# Altium schematic symbol library VKA.SchLib: 43 symbols
Pins are listed as number, name and electrical type; pins without a type are passive.

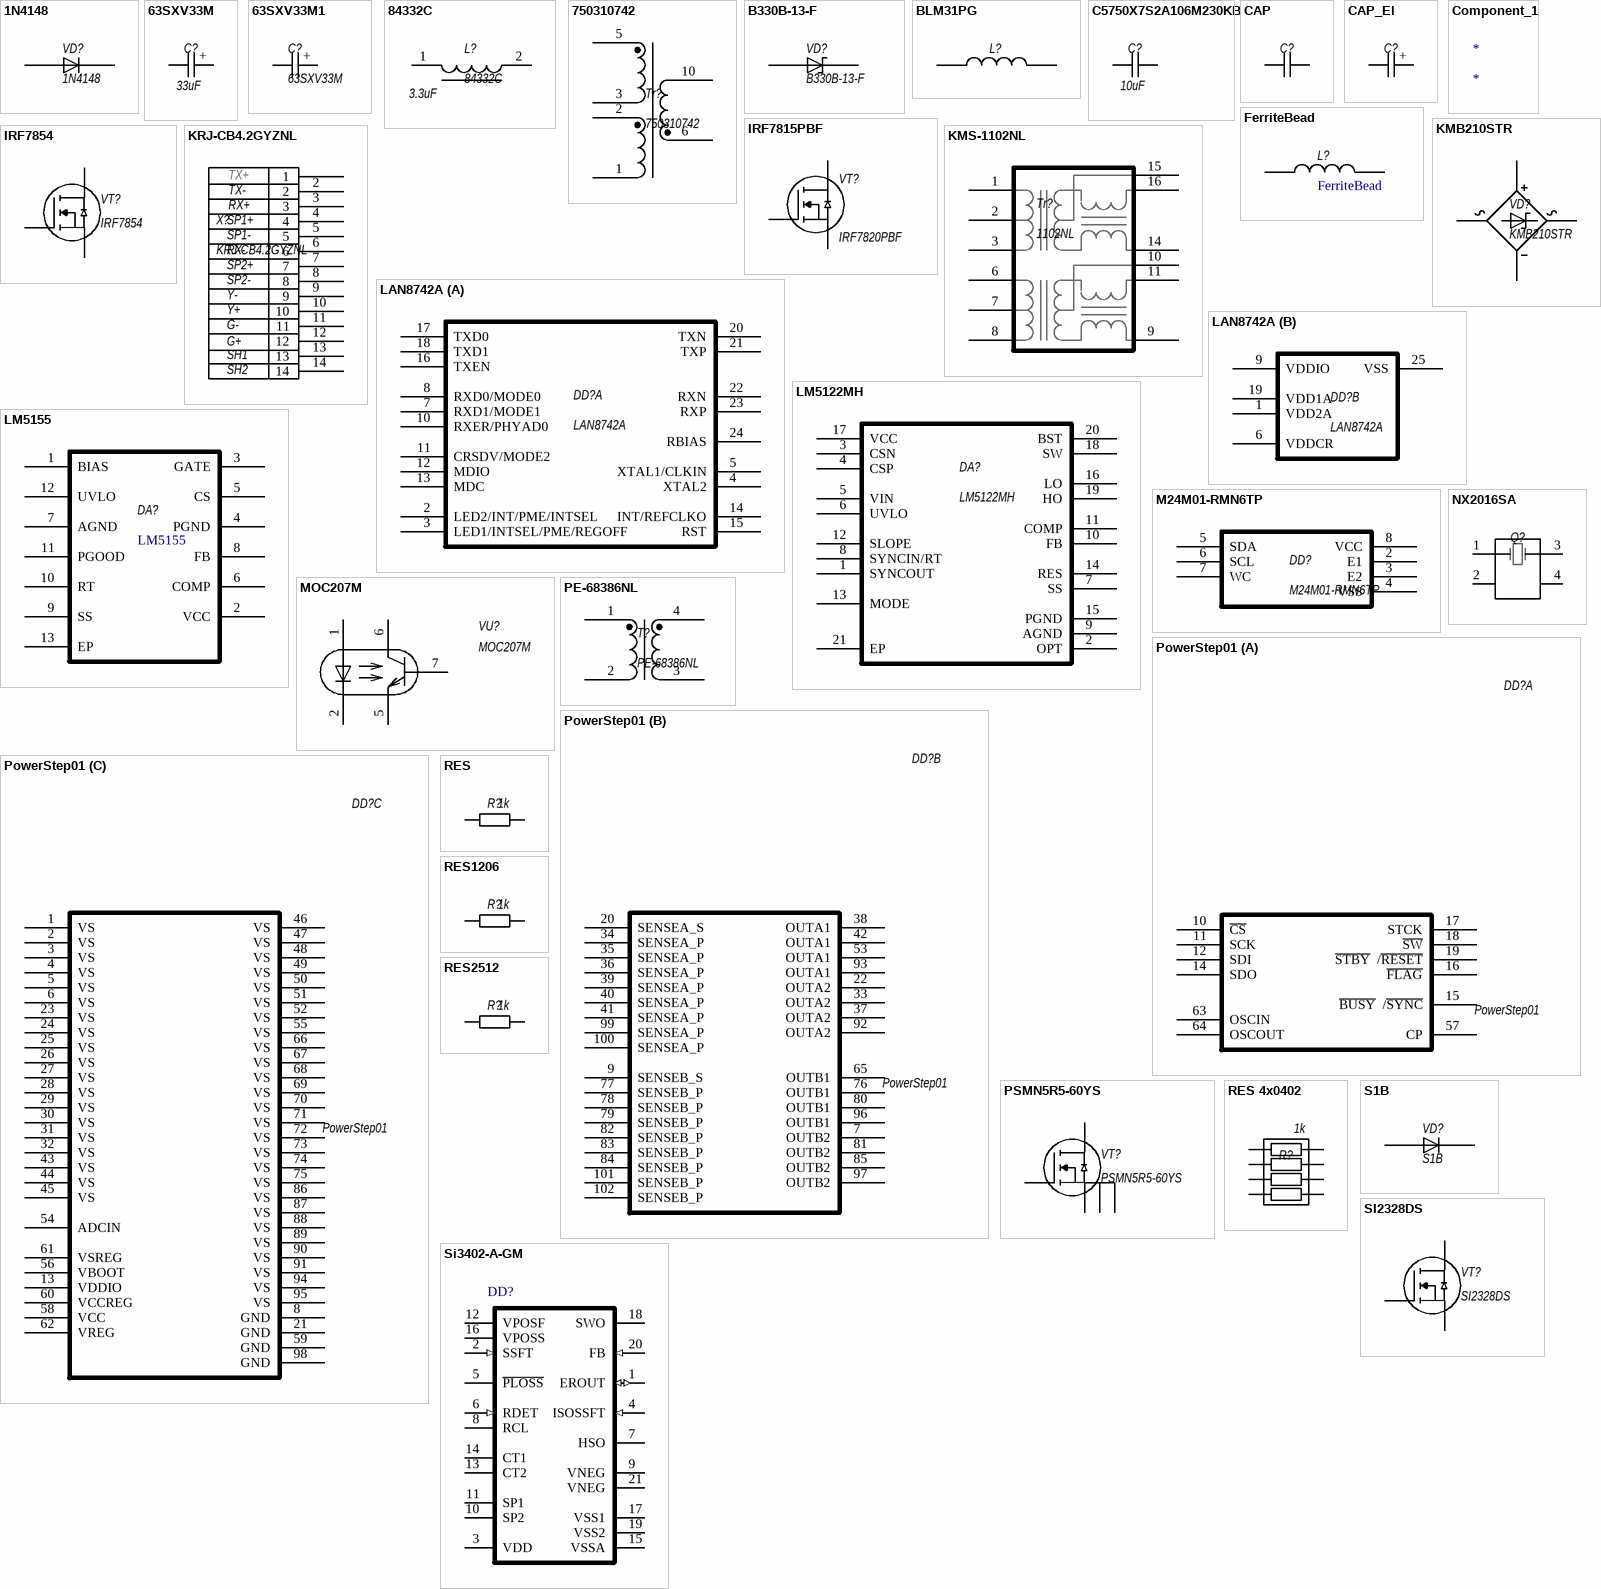
[diagram p0: symbols 1N4148 to Si3402-A-GM]

## 1N4148
designator VD?
rectifier diode; Manufacturer: ON
pins: 1 A, 2 K

## 63SXV33M
designator C?  value 33uF  (hidden comment: 63SXV33M)
Polymer Electrolytic Capacitor; Manufacturer: Panasonic; Voltage: 63V; Type: Aluminum_polymer
pins: 1, 2
text: +

## 63SXV33M1
designator C?, comment 63SXV33M
Polymer Electrolytic; Manufacturer: Panasonic; voltage: 63V; value: 33uF
pins: 1, 2
text: +

## 84332C
designator L?  value 3.3uF
Power inductor; Manufacturer: Murata
pins: 1, 2

## 750310742
designator Tr?
POE transformer; Manufacturer: Wurth
pins: 1, 2, 3, 5, 6, 10

## B330B-13-F
designator VD?
DIODE, SCHOTTKY, 3A, 30V, DO-214AA-2; Manufacturer: Multicomp
pins: 1 A, 2 K

## BLM31PG
designator L?, comment FB  (value not drawn)
Chip Ferrite Bead 1206; Manufacturer: Murata; type: BLM31PG601SN; value: 600
footprint L1206_Murata
pins: 1, 2

## C5750X7S2A106M230KB
designator C?  value 10uF
SMD Capacitor 2220 10u 100V; Manufacturer: TDK; Material: X7R; Tolerance: 10%; Type: Ceramic Capacitor; Voltage: 100V
pins: 1, 2

## CAP
designator C?  (value not drawn)
SMD Capacitor; Manufacturer: Murata; Material: X7R; Tolerance: 10%; Voltage: 50V; Type: Ceramic Capacitor; Value: 5600pF
footprint C0402 (Chip Capacitor, Body 1.0x0.5mm, IPC High Density)
footprint C0603 (Chip Capacitor, Body 1.6x0.8mm, IPC High Density)
footprint C0805 (Chip Capacitor, Body 2.0x1.3mm, IPC High Density)
footprint C1206
pins: 1, 2

## CAP_El
designator C?
Aluminum Electrolytic Capacitor; Manufacturer: Murata; Voltage: 100V; Value: 47uF; Type: Aluminum
pins: 1, 2
text: +

## Component_1
designator *

## FerriteBead
designator L?
SMD Chip ferrite bead 0603; value: 600R; PartNumber: *; Manufacturer: *
footprint L0603 (Chip Capacitor, Body 1.6x0.8mm, IPC High Density)
pins: 1, 2

## IRF7815PBF
designator VT?, comment IRF7820PBF
MOSFET N-ch 200V 3.7A
footprint 8-Pin SOIC trans
pins: D, G, S

## IRF7854
designator VT?
MOSFET N-ch 80V 10A; Manufacturer: IR
pins: D, G, S

## KMB210STR
designator VD?
Shottky diode bridge 100V 2A
pins: 1 DC+, 2 DC-, 3 AC, 4 AC

## KMS-1102NL
designator Tr?, comment 1102NL
'Discrete Magnetic Transformer Module, 16 pins, SMT, 100 Base-TX
pins: 1, 2, 3, 6, 7, 8, 9, 10, 11, 14, 15, 16

## KRJ-CB4.2GYZNL
designator X?
RJ45 Single port Low profile Shielded LED
pins: 1, 2, 3, 4, 5, 6, 7, 8, 9, 10, 11, 12, 13, 14
text: TX+; TX-; RX+; SP1+; SP1-; RX-; SP2+; SP2-; Y-; Y+; G-; G+; SH1; SH2

## LAN8742A
designator DD?
RMII 10/100 Ethernet PHY
footprint QFN-MJ24 (QFN, 24-Leads, Body 4x4mm, Pitch 0.5mm, Thermal Pad 2.6x2.6mm, Microchip Recommended)
part A pins: 2 LED2/INT/PME/INTSEL, 3 LED1/INTSEL/PME/REGOFF, 4 XTAL2, 5 XTAL1/CLKIN, 7 RXD1/MODE1, 8 RXD0/MODE0, 10 RXER/PHYAD0, 11 CRSDV/MODE2, 12 MDIO, 13 MDC, 14 INT/REFCLKO, 15 RST, 16 TXEN, 17 TXD0, 18 TXD1, 20 TXN, 21 TXP, 22 RXN, 23 RXP, 24 RBIAS
part B pins: 1 VDD2A, 6 VDDCR, 9 VDDIO, 19 VDD1A, 25 VSS

## LM5122MH
designator DA?
Boost controller; Manufacturer: TI; Case: 20 pin HTSSOP
pins: 1 SYNCOUT, 2 OPT, 3 CSN, 4 CSP, 5 VIN, 6 UVLO, 7 SS, 8 SYNCIN/RT, 9 AGND, 10 FB, 11 COMP, 12 SLOPE, 13 MODE, 14 RES, 15 PGND, 16 LO, 17 VCC, 18 SW, 19 HO, 20 BST, 21 EP

## LM5155
designator DA?
Boost controller; Manufacturer: TI
pins: 1 BIAS, 2 VCC, 3 GATE, 4 PGND, 5 CS, 6 COMP, 7 AGND, 8 FB, 9 SS, 10 RT, 11 PGOOD, 12 UVLO, 13 EP

## M24M01-RMN6TP
designator DD?
EEPROM 1Mbit I2C-compatinle; Manufacturer: ST
pins: 2 E1, 3 E2, 4 VSS, 5 SDA, 6 SCL, 7 WC, 8 VCC

## MOC207M
designator VU?
Optocoupler Phototransistor output; Manufacturer: ON
footprint SOIC_8
pins: 1, 2, 5, 6, 7

## NX2016SA
designator Q?  (value not drawn)
Crystal oscillator 25MHz; Manufacturer: NDK; value: 25MHz
footprint CRY_NX2016SA_4P
pins: 1 OSC1, 2 OSC1, 3 OSC2, 4 OSC1

## PE-68386NL
designator T?
Gate drive transformer; Manufacturer: Pulse Electronics
pins: 1, 2, 3, 4

## PowerStep01
designator DD?
Integrating microstepping controller and MOSFET
footprint VFQFPN(11x 14x1.0)
part A pins: 10 ~{CS}, 11 SCK, 12 SDI, 14 SDO, 15 ~{BUSY}  /~{SYNC}, 16 ~{FLAG}, 17 STCK, 18 ~{SW}, 19 ~{STBY}  /~{RESET}, 57 CP, 63 OSCIN, 64 OSCOUT
part B pins: 7 OUTB2, 9 SENSEB_S, 20 SENSEA_S, 22 OUTA2, 33 OUTA2, 34 SENSEA_P, 35 SENSEA_P, 36 SENSEA_P, 37 OUTA2, 38 OUTA1, 39 SENSEA_P, 40 SENSEA_P, 41 SENSEA_P, 42 OUTA1, 53 OUTA1, 65 OUTB1, 76 OUTB1, 77 SENSEB_P, 78 SENSEB_P, 79 SENSEB_P, 80 OUTB1, 81 OUTB2, 82 SENSEB_P, 83 SENSEB_P, 84 SENSEB_P, 85 OUTB2, 92 OUTA2, 93 OUTA1, 96 OUTB1, 97 OUTB2, 99 SENSEA_P, 100 SENSEA_P, 101 SENSEB_P, 102 SENSEB_P
part C pins: 1 VS, 2 VS, 3 VS, 4 VS, 5 VS, 6 VS, 8 GND, 13 VDDIO, 21 GND, 23 VS, 24 VS, 25 VS, 26 VS, 27 VS, 28 VS, 29 VS, 30 VS, 31 VS, 32 VS, 43 VS, 44 VS, 45 VS, 46 VS, 47 VS, 48 VS, 49 VS, 50 VS, 51 VS, 52 VS, 54 ADCIN, 55 VS, 56 VBOOT, 58 VCC, 59 GND, 60 VCCREG, 61 VSREG, 62 VREG, 66 VS, 67 VS, 68 VS, 69 VS, 70 VS, 71 VS, 72 VS, 73 VS, 74 VS, 75 VS, 86 VS, 87 VS, 88 VS, 89 VS, 90 VS, 91 VS, 94 VS, 95 VS, 98 GND

## PSMN5R5-60YS
designator VT?
MOSFET N-ch 100V 60A; Manufacturer: NXP
pins: 1 S, 2 S, 3 S, 4 G, 5 D

## RES
designator R?  value 1k  (hidden comment: *)
SMD Resistor; Name: Chip SMD Resistor; Power: 0.062 Wt; Tolerance: 5%; Temperature Range: -55…155°C
footprint R0402
footprint R0603
footprint R0805
pins: 1, 2

## RES1206
designator R?, comment value 1k  (hidden comment: 1206)
SMD Resistor; Name: Chip SMD Resistor; Power: 0.5 Wt; Tolerance: 5%; Temperature Range: -55…155°C
footprint R1206
pins: 1, 2

## RES2512
designator R?, comment value 1k  (hidden comment: 2512)
SMD Resistor; Name: Chip SMD Resistor; Power: 1 W; Tolerance: 5%; Temperature Range: -55…155°C
pins: 1, 2

## RES 4x0402
designator R?  value 1k  (hidden comment: *)
Chip Resistor Array; Manufacturer: Panasonic; Name: EXBN8V; Number of Resistors: 4; Tolerance: 5%; Type: 0402 Array Concave Terminal; Number of Terminals: 8; Series: EXB
footprint EXN8V (Resistor Array 4x0402 0804)
pins: 1, 2, 3, 4, 5, 6, 7, 8

## S1B
designator VD?
Rectifier diode; Manufacturer: ON
pins: 1 A, 2 K

## SI2328DS
designator VT?
MOSFET N-ch 100V 1.5A; Manufacturer: Vishay
footprint SOT23_tr
pins: D, G, S

## Si3402-A-GM
designator DD?
Fully-Integrated 802.3-Compliant PoE PD Interface and Low-EMI Switching Regulator, 17 W Maximum Output Power, -40 to 85 degC, 20-pin QFN; Manufacturer: Silicon Labs; PartNumber: Si3402-A-GM; Maximum Output Power: 17 W; Sub-Family: Power Over Ethernet Controllers; DatasheetVersion: Rev. 1.3; PackageReference: QFN-20; PackageDescription: 20-Pin Quad-Flat No-Leads Package, Body 5 x 5 mm, Pitch 0.8 mm; Supplier 1: Digi-Key; Supplier Part Number 1: SI3402-A-GM-ND; Supplier 2: Mouser; Supplier Part Number 2: 634-SI3402-A-GM; Mounting Technology: Surface Mount; Code_JEDEC: MO-220; ComponentLink1Description: Manufacturer URL; ComponentLink1URL: http://www.silabs.com/; ComponentLink2Description: Datasheet; ComponentLink2URL: http://www.silabs.com/Support Documents/TechnicalDocs/Si3402.pdf; ComponentLink3Description: Package Specification; ComponentLink3URL: http://www.silabs.com/Support%20Documents/TechnicalDocs/Si3402.pdf
footprint SLAB-QFN-20-2700x2700TP_B_M (QFN, 20-Leads, Body 5x5mm, Pitch 0.8mm, Thermal Pad 2.7x2.7mm, IPC Low Density)
pins: 1 EROUT (io) "Error-amplifier output and PWM input; directly connected to opto-coupler in isolated application", 2 SSFT (in) "Soft-start output pin ramps voltage across external soft-start capacitor to allow switcher to ramp output slowly.", 3 VDD (power) "5 V supply rail for switcher; provides drive for opto-coupler", 4 ISOSSFT (in) "Isolated mode soft start enable input. Tie to VDD for non-isolated applications. Connect a 0.1 uF capacitor between this pin and VSSA for isolated applications.", 5 ~{PLOSS} (oc) "Early power loss indicator; open drain output is pulled to VPOS when VPORT is applied.", 6 RDET (in) "Input pin for external precision detection resistor; also used for establishing absolute current reference.", 7 HSO (hiz) "Hotswap switch output; connects to VNEG through hotswap switch.", 8 RCL "Input pin for external precision classification resistor; float if optional RCLASS is unused.", 9 VNEG (power) "Rectified high-voltage supply, negative rail. Must be connected to thermal PAD node (VNEG) on package bottom. This thermal pad must be connected to VNEG (pin #9) as well as a 2 in2 heat spreader plane using a minimum of nine (See Datasheet)", 10 SP2 (power) "High-voltage supply input from spare pair; polarity-insensitive.", 11 SP1 (power) "High-voltage supply input from spare pair; polarity-insensitive.", 12 VPOSF (power) "Rectified high-voltage supply, positive rail (force node)", 13 CT2 (power) "High-voltage supply input from center tap of Ethernet transformer; polarity-insensitive.", 14 CT1 (power) "High-voltage supply input from center tap of Ethernet transformer; polarity-insensitive.", 15 VSSA (power) "Analog ground.", 16 VPOSS (power) "Rectified high-voltage supply, positive rail sense node.", 17 VSS1 (power) "Negative supply rail for switcher; externally tied to HSO.", 18 SWO (oc) "Switching transistor output; drain of switching N-FET.", 19 VSS2 (power) "Negative supply rail for switcher; externally tied to HSO.", 20 FB (in) "Regulated feedback input in non-isolated application.", 21 VNEG (power) "Rectified high-voltage supply, negative rail. Must be connected to thermal PAD node (VNEG) on package bottom. This thermal pad must be connected to VNEG (pin #9) as well as a 2 in2 heat spreader plane using a minimum of nine (See Datasheet)"

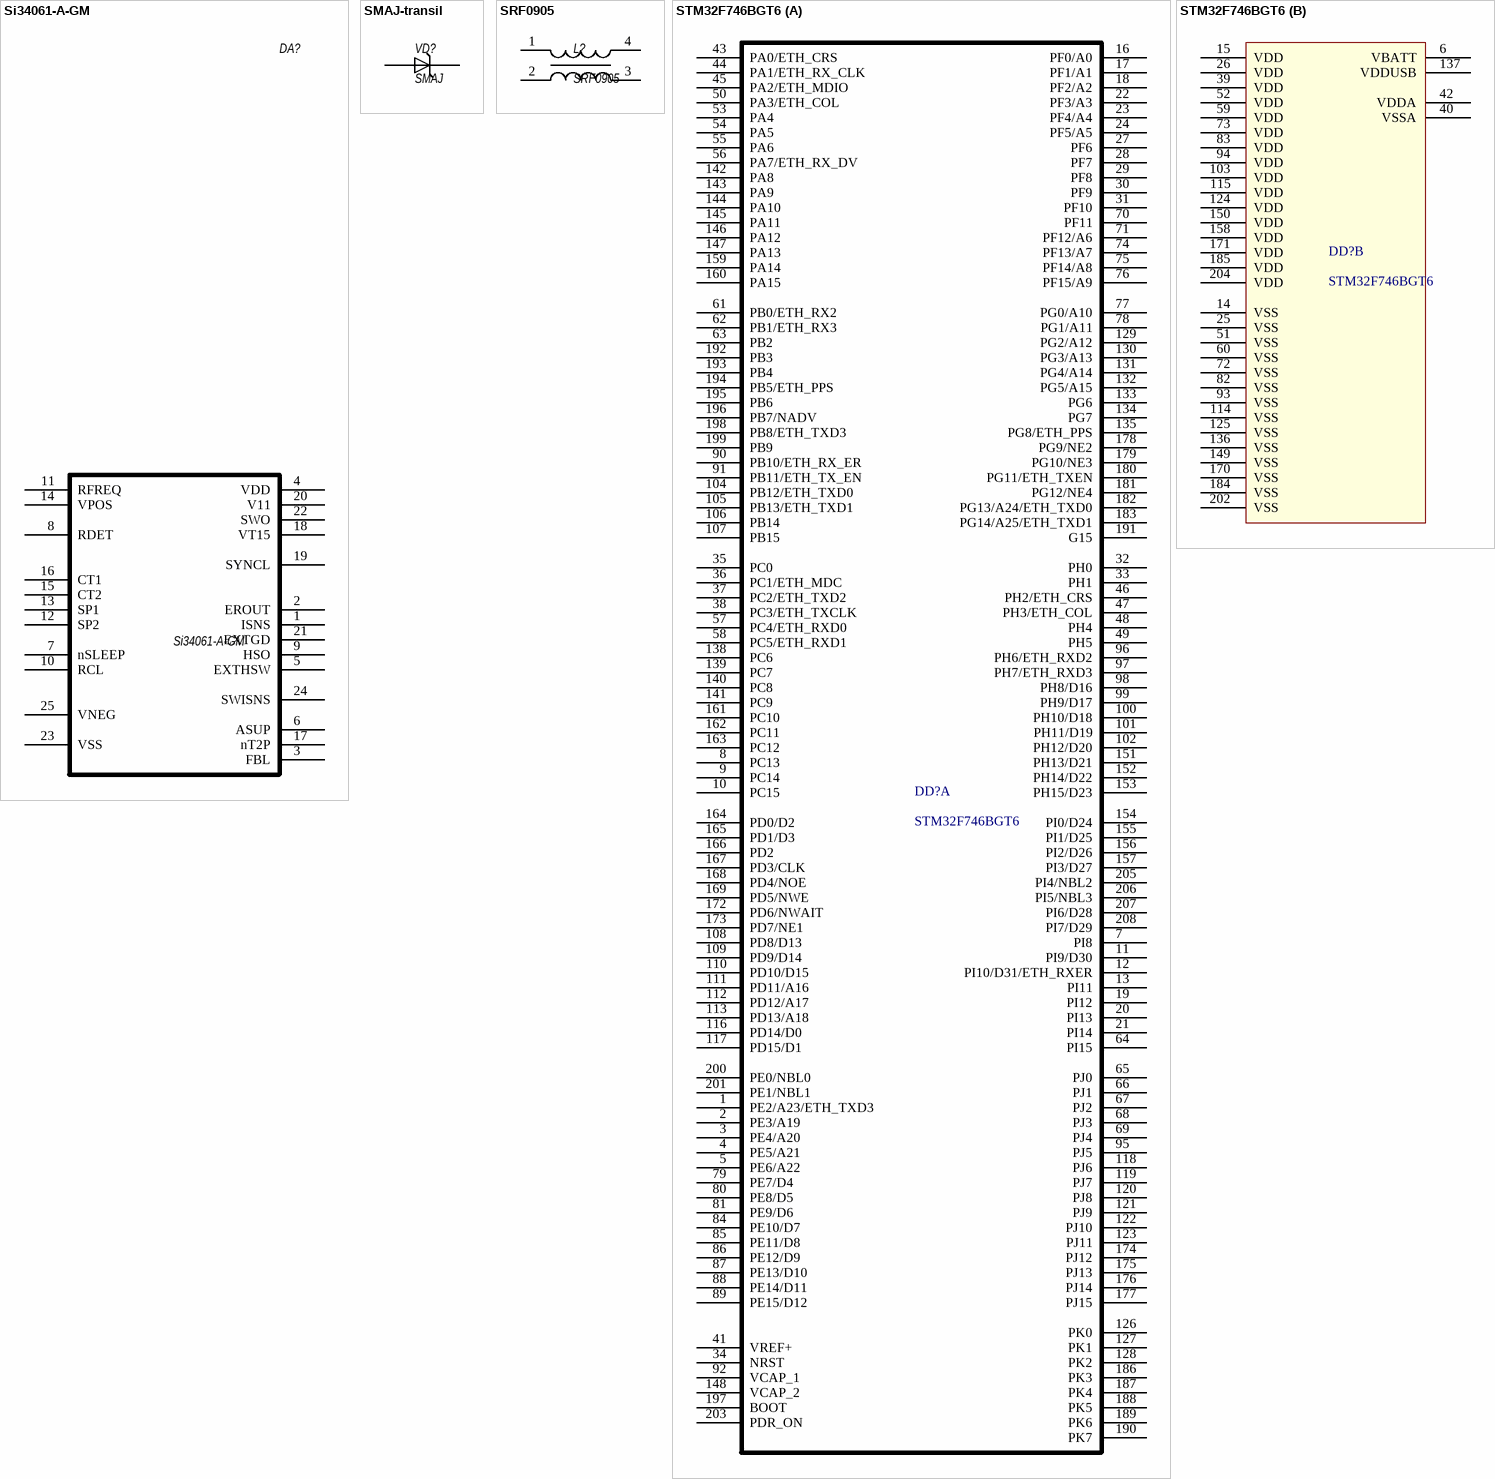
[diagram p1: symbols Si34061-A-GM to STM32F746BGT6]

## Si34061-A-GM
designator DA?
Fully-Integrated IEEE 802.3-Compliant POE+ PD Interface and  High-Efficiency Switching Regulators with Transistor Bypass,  Sleep, Wake, and LED Drive
footprint Quad24_5x5mm
pins: 1 ISNS (power) "Chip average current sense resistor input", 2 EROUT (power) "Error amplifier current output, compensation impedance input", 3 FBL (power) "Low side (ground referenced) dcdc feedback (flyback converter)", 4 VDD (power) "5V regulator output", 5 EXTHSW (power) "External hotswap switch drive", 6 ASUP (power) "AUX auxiliary adapter present", 7 nSLEEP (power) "Sleep, with pull-up, driven by open drain", 8 RDET (power) "Detection resistor", 9 HSO (power) "Hotswap switch output", 10 RCL (power) "Classification resistor", 11 RFREQ (power) "Oscillator frequency tuning resistor, tie to VPOS to select default  freq", 12 SP2 (power) "High-voltage supply input from spare pair; polarity-insensitive", 13 SP1 (power) "High-voltage supply input from spare pair; polarity-insensitive", 14 VPOS (power) "Rectified high-voltage supply positive rail", 15 CT2 (power) "High-voltage supply input from main pair; polarity-insensitive", 16 CT1 (power) "High-voltage supply input from main pair; polarity-insensitive", 17 nT2P (power) "Type II classification was successful", 18 VT15 (power) "Dcdc transformer bias winding input", 19 SYNCL (power) "Gate driver for synchronous rectification FET", 20 V11 (power) "11 V regulator output for filter cap.", 21 EXTGD (power) "External FET gate drive.  When internal switching FET is in use, tie to VSS.", 22 SWO (power) "Internal dcdc switch output (NMOS drain)", 23 VSS (power) "Dcdc converter primary ground", 24 SWISNS (power) "External FET peak current sense resistor voltage input", 25 VNEG (power) "Rectified high voltage supply ground"

## SMAJ-transil
designator VD?, comment SMAJ
Transient voltage supression diode; Manufacturer: LittleFuse; type: SMAJ58A; value: 58V
footprint SMA
pins: 1 A, 2 B

## SRF0905
designator L?
LineFilter; Manufacturer: Bourns; value: 500uH; type: SRF0905-501Y
pins: 1, 2, 3, 4

## STM32F746BGT6
designator DD?
footprint LQFP208
part A pins: 1 PE2/A23/ETH_TXD3, 2 PE3/A19, 3 PE4/A20, 4 PE5/A21, 5 PE6/A22, 7 PI8, 8 PC13, 9 PC14, 10 PC15, 11 PI9/D30, 12 PI10/D31/ETH_RXER, 13 PI11, 16 PF0/A0, 17 PF1/A1, 18 PF2/A2, 19 PI12, 20 PI13, 21 PI14, 22 PF3/A3, 23 PF4/A4, 24 PF5/A5, 27 PF6, 28 PF7, 29 PF8, 30 PF9, 31 PF10, 32 PH0, 33 PH1, 34 NRST, 35 PC0, 36 PC1/ETH_MDC, 37 PC2/ETH_TXD2, 38 PC3/ETH_TXCLK, 41 VREF+, 43 PA0/ETH_CRS, 44 PA1/ETH_RX_CLK, 45 PA2/ETH_MDIO, 46 PH2/ETH_CRS, 47 PH3/ETH_COL, 48 PH4, 49 PH5, 50 PA3/ETH_COL, 53 PA4, 54 PA5, 55 PA6, 56 PA7/ETH_RX_DV, 57 PC4/ETH_RXD0, 58 PC5/ETH_RXD1, 61 PB0/ETH_RX2, 62 PB1/ETH_RX3, 63 PB2, 64 PI15, 65 PJ0, 66 PJ1, 67 PJ2, 68 PJ3, 69 PJ4, 70 PF11, 71 PF12/A6, 74 PF13/A7, 75 PF14/A8, 76 PF15/A9, 77 PG0/A10, 78 PG1/A11, 79 PE7/D4, 80 PE8/D5, 81 PE9/D6, 84 PE10/D7, 85 PE11/D8, 86 PE12/D9, 87 PE13/D10, 88 PE14/D11, 89 PE15/D12, 90 PB10/ETH_RX_ER, 91 PB11/ETH_TX_EN, 92 VCAP_1, 95 PJ5, 96 PH6/ETH_RXD2, 97 PH7/ETH_RXD3, 98 PH8/D16, 99 PH9/D17, 100 PH10/D18, 101 PH11/D19, 102 PH12/D20, 104 PB12/ETH_TXD0, 105 PB13/ETH_TXD1, 106 PB14, 107 PB15, 108 PD8/D13, 109 PD9/D14, 110 PD10/D15, 111 PD11/A16, 112 PD12/A17, 113 PD13/A18, 116 PD14/D0, 117 PD15/D1, 118 PJ6, 119 PJ7, 120 PJ8, 121 PJ9, 122 PJ10, 123 PJ11, 126 PK0, 127 PK1, 128 PK2, 129 PG2/A12, 130 PG3/A13, 131 PG4/A14, 132 PG5/A15, 133 PG6, 134 PG7, 135 PG8/ETH_PPS, 138 PC6, 139 PC7, 140 PC8, 141 PC9, 142 PA8, 143 PA9, 144 PA10, 145 PA11, 146 PA12, 147 PA13, 148 VCAP_2, 151 PH13/D21, 152 PH14/D22, 153 PH15/D23, 154 PI0/D24, 155 PI1/D25, 156 PI2/D26, 157 PI3/D27, 159 PA14, 160 PA15, 161 PC10, 162 PC11, 163 PC12, 164 PD0/D2, 165 PD1/D3, 166 PD2, 167 PD3/CLK, 168 PD4/NOE, 169 PD5/NWE, 172 PD6/NWAIT, 173 PD7/NE1, 174 PJ12, 175 PJ13, 176 PJ14, 177 PJ15, 178 PG9/NE2, 179 PG10/NE3, 180 PG11/ETH_TXEN, 181 PG12/NE4, 182 PG13/A24/ETH_TXD0, 183 PG14/A25/ETH_TXD1, 186 PK3, 187 PK4, 188 PK5, 189 PK6, 190 PK7, 191 G15, 192 PB3, 193 PB4, 194 PB5/ETH_PPS, 195 PB6, 196 PB7/NADV, 197 BOOT, 198 PB8/ETH_TXD3, 199 PB9, 200 PE0/NBL0, 201 PE1/NBL1, 203 PDR_ON, 205 PI4/NBL2, 206 PI5/NBL3, 207 PI6/D28, 208 PI7/D29
part B pins: 6 VBATT, 14 VSS, 15 VDD, 25 VSS, 26 VDD, 39 VDD, 40 VSSA, 42 VDDA, 51 VSS, 52 VDD, 59 VDD, 60 VSS, 72 VSS, 73 VDD, 82 VSS, 83 VDD, 93 VSS, 94 VDD, 103 VDD, 114 VSS, 115 VDD, 124 VDD, 125 VSS, 136 VSS, 137 VDDUSB, 149 VSS, 150 VDD, 158 VDD, 170 VSS, 171 VDD, 184 VSS, 185 VDD, 202 VSS, 204 VDD

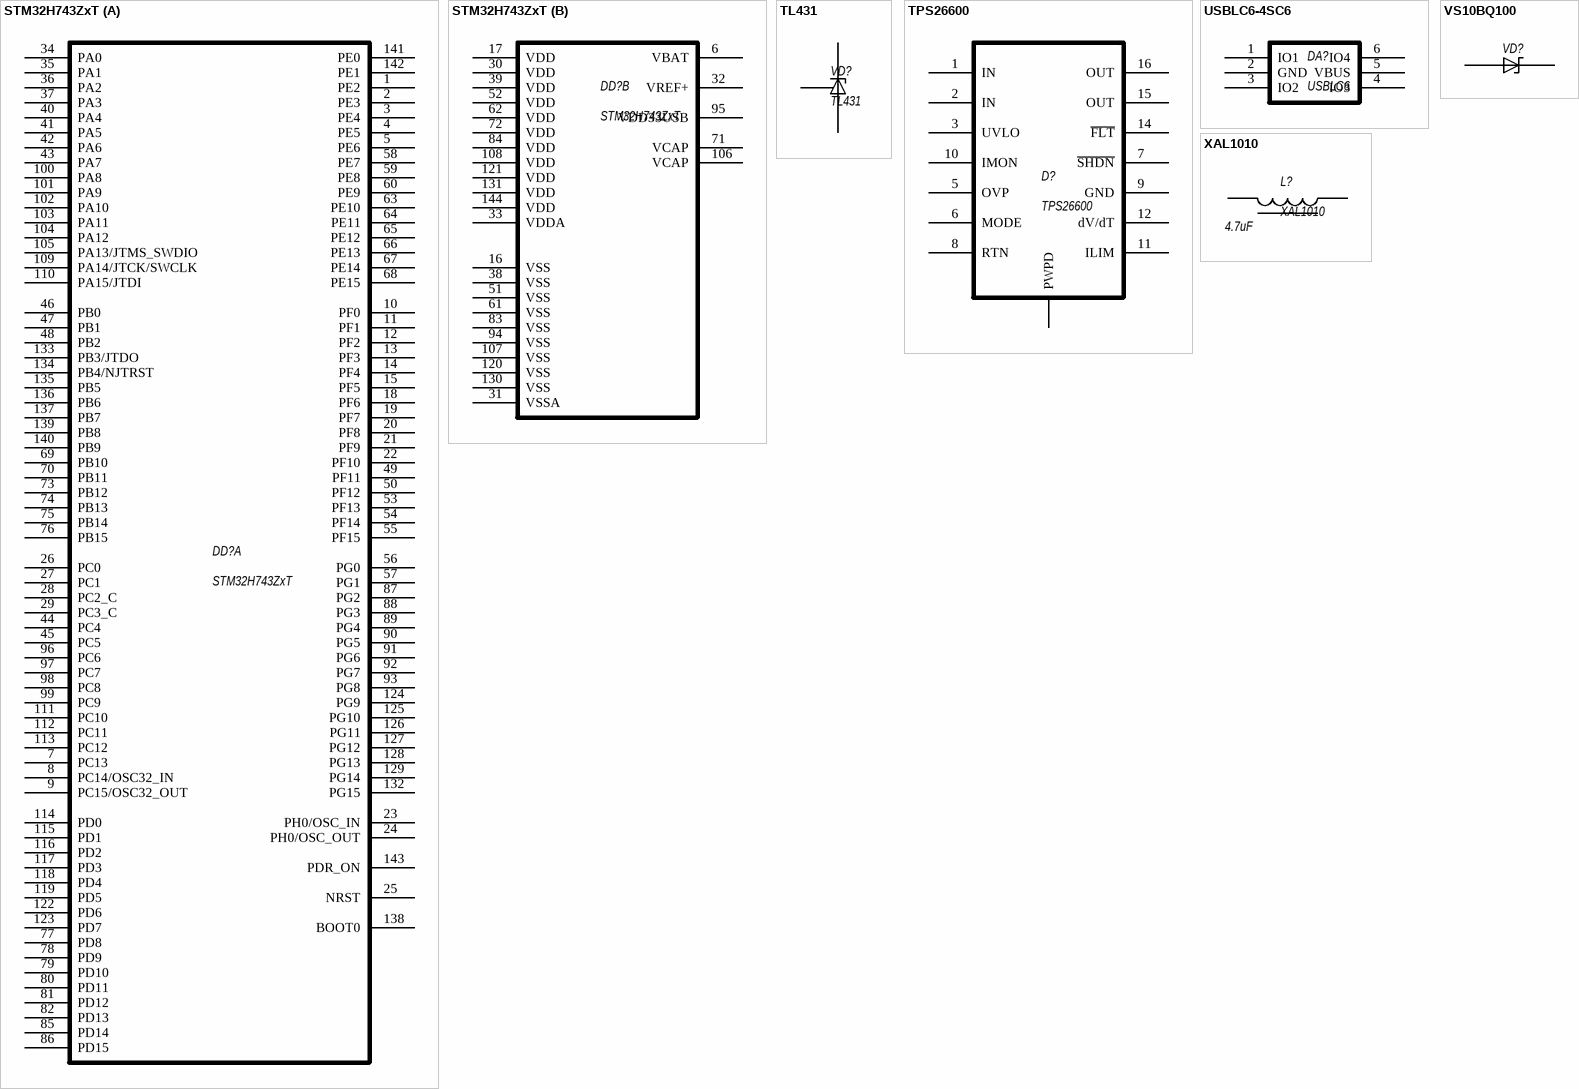
[diagram p2: symbols STM32H743ZxT to XAL1010]

## STM32H743ZxT
designator DD?
ARM Cortex-M7, 480MHz, 32-bit MCU+FPU, 144-pin LQFP
footprint STM-LQFP144_L (Thin QFP, 144-Leads, Body 20x20mm, Pitch 0.5mm, IPC High Density)
part A pins: 1 PE2, 2 PE3, 3 PE4, 4 PE5, 5 PE6, 7 PC13, 8 PC14/OSC32_IN, 9 PC15/OSC32_OUT, 10 PF0, 11 PF1, 12 PF2, 13 PF3, 14 PF4, 15 PF5, 18 PF6, 19 PF7, 20 PF8, 21 PF9, 22 PF10, 23 PH0/OSC_IN, 24 PH0/OSC_OUT, 25 NRST, 26 PC0, 27 PC1, 28 PC2_C, 29 PC3_C, 34 PA0, 35 PA1, 36 PA2, 37 PA3, 40 PA4, 41 PA5, 42 PA6, 43 PA7, 44 PC4, 45 PC5, 46 PB0, 47 PB1, 48 PB2, 49 PF11, 50 PF12, 53 PF13, 54 PF14, 55 PF15, 56 PG0, 57 PG1, 58 PE7, 59 PE8, 60 PE9, 63 PE10, 64 PE11, 65 PE12, 66 PE13, 67 PE14, 68 PE15, 69 PB10, 70 PB11, 73 PB12, 74 PB13, 75 PB14, 76 PB15, 77 PD8, 78 PD9, 79 PD10, 80 PD11, 81 PD12, 82 PD13, 85 PD14, 86 PD15, 87 PG2, 88 PG3, 89 PG4, 90 PG5, 91 PG6, 92 PG7, 93 PG8, 96 PC6, 97 PC7, 98 PC8, 99 PC9, 100 PA8, 101 PA9, 102 PA10, 103 PA11, 104 PA12, 105 PA13/JTMS_SWDIO, 109 PA14/JTCK/SWCLK, 110 PA15/JTDI, 111 PC10, 112 PC11, 113 PC12, 114 PD0, 115 PD1, 116 PD2, 117 PD3, 118 PD4, 119 PD5, 122 PD6, 123 PD7, 124 PG9, 125 PG10, 126 PG11, 127 PG12, 128 PG13, 129 PG14, 132 PG15, 133 PB3/JTDO, 134 PB4/NJTRST, 135 PB5, 136 PB6, 137 PB7, 138 BOOT0, 139 PB8, 140 PB9, 141 PE0, 142 PE1, 143 PDR_ON
part B pins: 6 VBAT, 16 VSS, 17 VDD, 30 VDD, 31 VSSA, 32 VREF+, 33 VDDA, 38 VSS, 39 VDD, 51 VSS, 52 VDD, 61 VSS, 62 VDD, 71 VCAP, 72 VDD, 83 VSS, 84 VDD, 94 VSS, 95 VDD33USB, 106 VCAP, 107 VSS, 108 VDD, 120 VSS, 121 VDD, 130 VSS, 131 VDD, 144 VDD

## TL431
designator VD?
Programmable reference SOT23-3; Manufacturer: TI
pins: 1 K, 2 R, 3 A

## TPS26600
designator D?
Industrial eFuse; Current: 2A; Voltage: 60V; Name: TPS26600; Package: 16-Pin SOIC PowerPAD; Temperature Range: −40°C to + 125°C; Type: Industrial eFuse
footprint R-PDSO-G16
pins: 1 IN, 2 IN, 3 UVLO, 5 OVP, 6 MODE, 7 ~{SHDN}, 8 RTN, 9 GND, 10 IMON, 11 ILIM, 12 dV/dT, 14 ~{FLT}, 15 OUT, 16 OUT, 17 PWPD

## USBLC6-4SC6
designator DA?, comment USBLC6
ESD protection Very low capacitance; Manufacturer: ST
footprint ESD_SOT23-6L
pins: 1 IO1, 2 GND, 3 IO2, 4 IO3, 5 VBUS, 6 IO4

## VS10BQ100
designator VD?  (value not drawn)
DIODE, SCHOTTKY, 1A, 100V, DO-214AA-2; Manufacturer: Vishay
pins: 1 A, 2 K

## XAL1010
designator L?  value 4.7uF
Power inductor; Manufacturer: Murata; type: XAL1010-472ME
pins: 1, 2